# Altium footprint library Inductor_SMD.PcbLib: 587 footprints (part 7 of 37)
Each footprint in its own frame and in the unit in brackets; x right, y up, seen from the top. Pads: shape width x height; smd on the part's side, far side on the other; paste and mask are expansions set on the pad; w line width, h text height; cw(c..) or ccw(c..) is an arc to the next point about the centre after c.
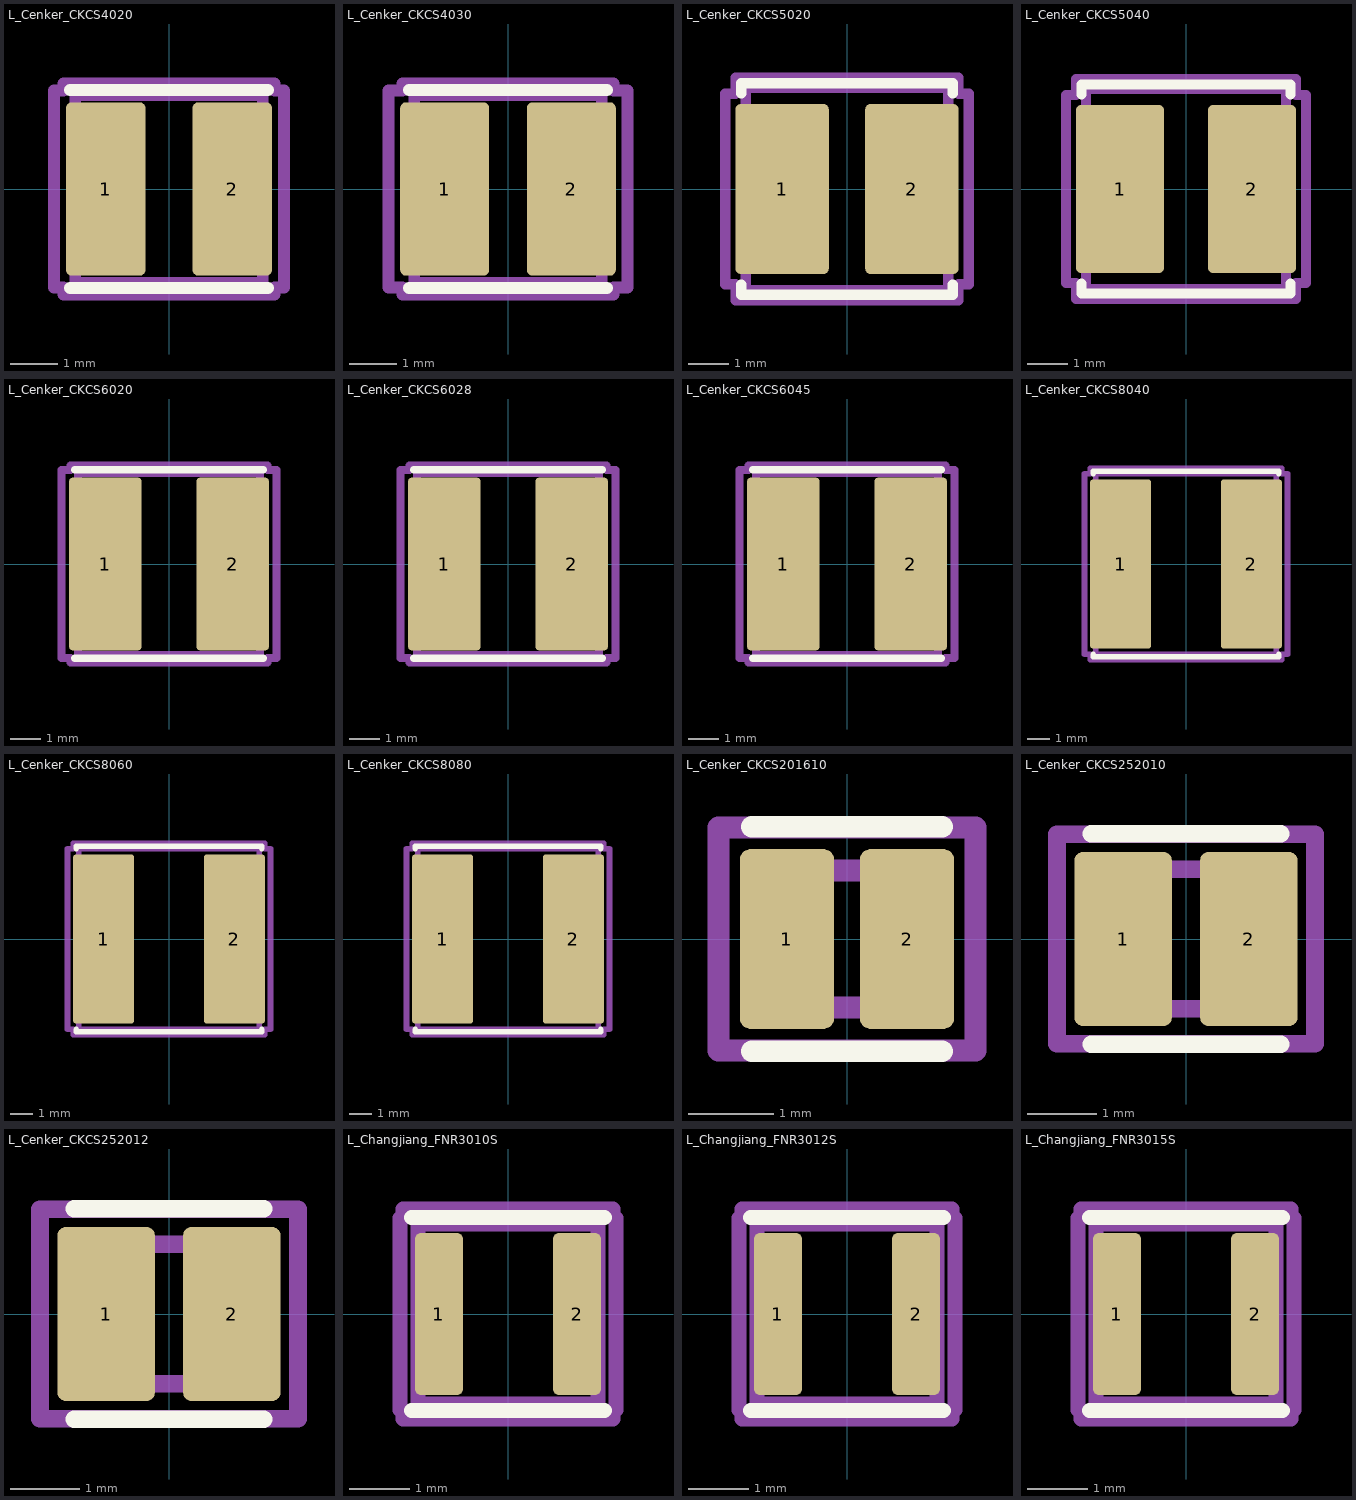
[diagram p6: the footprints below, top view; thin cyan lines are the x and y axes]

## L_Cenker_CKCS4020 [mm] "L_Cenker_CKCS4020"
pads (2):
  rrect15% 1.7x3.7 smd: 1(-1.35,0) 2(1.35,0)
F.SilkS:
  lines w0.254: -2.11,-2.11 2.11,-2.11 ; -2.11,2.11 2.11,2.11
Top Assembly:
  lines w0.254: -2,-2 -2,2 2,2 2,-2 -2,-2
  text "'.Designator'" at -4.047,-0.84 h1
Top Courtyard:
  lines w0.254: -2.45,-2.1 -2.45,2.1 -2.25,2.1 -2.25,2.25 2.25,2.25 2.25,2.1 2.45,2.1 2.45,-2.1 2.25,-2.1 2.25,-2.25 -2.25,-2.25 -2.25,-2.1 -2.45,-2.1
Top Designator:
  text ".Designator" at -7.768,-0.508 h1.52
3D body "L_Cenker_CKCS4020.step": height 2, standoff 0, extent -2.01,-2 2.01,2

## L_Cenker_CKCS4030 [mm] "L_Cenker_CKCS4030"
pads (2):
  rrect13% 1.9x3.7 smd: 1(-1.35,0) 2(1.35,0)
F.SilkS:
  lines w0.254: -2.11,-2.11 2.11,-2.11 ; -2.11,2.11 2.11,2.11
Top Assembly:
  lines w0.254: -2,-2 2,-2 2,2 -2,2 -2,-2
  text "'.Designator'" at -4.047,-0.84 h1
Top Courtyard:
  lines w0.254: -2.55,-2.1 -2.25,-2.1 -2.25,-2.25 2.25,-2.25 2.25,-2.1 2.55,-2.1 2.55,2.1 2.25,2.1 2.25,2.25 -2.25,2.25 -2.25,2.1 -2.55,2.1 -2.55,-2.1
Top Designator:
  text ".Designator" at -7.768,-0.508 h1.52
3D body "L_Cenker_CKCS4030.step": height 3, standoff 0, extent -2.01,-2 2.01,2

## L_Cenker_CKCS5020 [mm] "L_Cenker_CKCS5020"
pads (2):
  rrect11% 2.3x4.2 smd: 1(-1.6,0) 2(1.6,0)
F.SilkS:
  lines w0.254: -2.61,-2.36 -2.61,-2.61 2.61,-2.61 2.61,-2.36 ; -2.61,2.36 -2.61,2.61 2.61,2.61 2.61,2.36
Top Assembly:
  lines w0.254: -2.5,-2.5 -2.5,2.5 2.5,2.5 2.5,-2.5 -2.5,-2.5
  text "'.Designator'" at -4.047,-0.84 h1
Top Courtyard:
  lines w0.254: -3,-2.35 -3,2.35 -2.75,2.35 -2.75,2.75 2.75,2.75 2.75,2.35 3,2.35 3,-2.35 2.75,-2.35 2.75,-2.75 -2.75,-2.75 -2.75,-2.35 -3,-2.35
Top Designator:
  text ".Designator" at -7.768,-0.508 h1.52
3D body "L_Cenker_CKCS5020.step": height 2.1, standoff 0, extent -2.51,-2.5 2.51,2.5

## L_Cenker_CKCS5040 [mm] "L_Cenker_CKCS5040"
pads (2):
  rrect11% 2.2x4.2 smd: 1(-1.65,0) 2(1.65,0)
F.SilkS:
  lines w0.254: -2.61,-2.36 -2.61,-2.61 2.61,-2.61 2.61,-2.36 ; -2.61,2.36 -2.61,2.61 2.61,2.61 2.61,2.36
Top Assembly:
  lines w0.254: -2.5,-2.5 -2.5,2.5 2.5,2.5 2.5,-2.5 -2.5,-2.5
  text "'.Designator'" at -4.047,-0.84 h1
Top Courtyard:
  lines w0.254: -3,-2.35 -3,2.35 -2.75,2.35 -2.75,2.75 2.75,2.75 2.75,2.35 3,2.35 3,-2.35 2.75,-2.35 2.75,-2.75 -2.75,-2.75 -2.75,-2.35 -3,-2.35
Top Designator:
  text ".Designator" at -7.768,-0.508 h1.52
3D body "L_Cenker_CKCS5040.step": height 4, standoff 0, extent -2.51,-2.5 2.51,2.5

## L_Cenker_CKCS6020 [mm] "L_Cenker_CKCS6020"
pads (2):
  rrect10% 2.4x5.7 smd: 1(-2.1,0) 2(2.1,0)
F.SilkS:
  lines w0.254: -3.11,-3.11 3.11,-3.11 ; -3.11,3.11 3.11,3.11
Top Assembly:
  lines w0.254: -3,-3 -3,3 3,3 3,-3 -3,-3
  text "'.Designator'" at -4.047,-0.84 h1
Top Courtyard:
  lines w0.254: -3.55,-3.1 -3.55,3.1 -3.25,3.1 -3.25,3.25 3.25,3.25 3.25,3.1 3.55,3.1 3.55,-3.1 3.25,-3.1 3.25,-3.25 -3.25,-3.25 -3.25,-3.1 -3.55,-3.1
Top Designator:
  text ".Designator" at -7.768,-0.508 h1.52
3D body "L_Cenker_CKCS6020.step": height 2.1, standoff 0, extent -3.01,-3 3.01,3

## L_Cenker_CKCS6028 [mm] "L_Cenker_CKCS6028"
pads (2):
  rrect10% 2.4x5.7 smd: 1(-2.1,0) 2(2.1,0)
F.SilkS:
  lines w0.254: -3.11,-3.11 3.11,-3.11 ; -3.11,3.11 3.11,3.11
Top Assembly:
  lines w0.254: -3,-3 3,-3 3,3 -3,3 -3,-3
  text "'.Designator'" at -4.047,-0.84 h1
Top Courtyard:
  lines w0.254: -3.55,-3.1 -3.25,-3.1 -3.25,-3.25 3.25,-3.25 3.25,-3.1 3.55,-3.1 3.55,3.1 3.25,3.1 3.25,3.25 -3.25,3.25 -3.25,3.1 -3.55,3.1 -3.55,-3.1
Top Designator:
  text ".Designator" at -7.768,-0.508 h1.52
3D body "L_Cenker_CKCS6028.step": height 3, standoff 0, extent -3.01,-3 3.01,3

## L_Cenker_CKCS6045 [mm] "L_Cenker_CKCS6045"
pads (2):
  rrect10% 2.4x5.7 smd: 1(-2.1,0) 2(2.1,0)
F.SilkS:
  lines w0.254: -3.11,-3.11 3.11,-3.11 ; -3.11,3.11 3.11,3.11
Top Assembly:
  lines w0.254: -3,-3 -3,3 3,3 3,-3 -3,-3
  text "'.Designator'" at -4.047,-0.84 h1
Top Courtyard:
  lines w0.254: -3.55,-3.1 -3.55,3.1 -3.25,3.1 -3.25,3.25 3.25,3.25 3.25,3.1 3.55,3.1 3.55,-3.1 3.25,-3.1 3.25,-3.25 -3.25,-3.25 -3.25,-3.1 -3.55,-3.1
Top Designator:
  text ".Designator" at -7.768,-0.508 h1.52
3D body "L_Cenker_CKCS6045.step": height 4.7, standoff 0, extent -3.01,-3 3.01,3

## L_Cenker_CKCS8040 [mm] "L_Cenker_CKCS8040"
pads (2):
  rrect9% 2.7x7.5 smd: 1(-2.9,0) 2(2.9,0)
F.SilkS:
  lines w0.254: -4.11,-4.01 -4.11,-4.11 4.11,-4.11 4.11,-4.01 ; -4.11,4.01 -4.11,4.11 4.11,4.11 4.11,4.01
Top Assembly:
  lines w0.254: -4,-4 -4,4 4,4 4,-4 -4,-4
  text "'.Designator'" at -4.047,-0.84 h1
Top Courtyard:
  lines w0.254: -4.5,-4 -4.5,4 -4.25,4 -4.25,4.25 4.25,4.25 4.25,4 4.5,4 4.5,-4 4.25,-4 4.25,-4.25 -4.25,-4.25 -4.25,-4 -4.5,-4
Top Designator:
  text ".Designator" at -7.618,-0.508 h1.52
3D body "L_Cenker_CKCS8040.step": height 4.2, standoff 0, extent -4.01,-4 4.01,4

## L_Cenker_CKCS8060 [mm] "L_Cenker_CKCS8060"
pads (2):
  rrect9% 2.7x7.5 smd: 1(-2.9,0) 2(2.9,0)
F.SilkS:
  lines w0.254: -4.11,-4.01 -4.11,-4.11 4.11,-4.11 4.11,-4.01 ; -4.11,4.01 -4.11,4.11 4.11,4.11 4.11,4.01
Top Assembly:
  lines w0.254: -4,-4 4,-4 4,4 -4,4 -4,-4
  text "'.Designator'" at -4.047,-0.84 h1
Top Courtyard:
  lines w0.254: -4.5,-4 -4.25,-4 -4.25,-4.25 4.25,-4.25 4.25,-4 4.5,-4 4.5,4 4.25,4 4.25,4.25 -4.25,4.25 -4.25,4 -4.5,4 -4.5,-4
Top Designator:
  text ".Designator" at -7.618,-0.508 h1.52
3D body "L_Cenker_CKCS8060.step": height 6.2, standoff 0, extent -4.01,-4 4.01,4

## L_Cenker_CKCS8080 [mm] "L_Cenker_CKCS8080"
pads (2):
  rrect9% 2.7x7.5 smd: 1(-2.9,0) 2(2.9,0)
F.SilkS:
  lines w0.254: -4.11,-4.01 -4.11,-4.11 4.11,-4.11 4.11,-4.01 ; -4.11,4.01 -4.11,4.11 4.11,4.11 4.11,4.01
Top Assembly:
  lines w0.254: -4,-4 -4,4 4,4 4,-4 -4,-4
  text "'.Designator'" at -4.047,-0.84 h1
Top Courtyard:
  lines w0.254: -4.5,-4 -4.5,4 -4.25,4 -4.25,4.25 4.25,4.25 4.25,4 4.5,4 4.5,-4 4.25,-4 4.25,-4.25 -4.25,-4.25 -4.25,-4 -4.5,-4
Top Designator:
  text ".Designator" at -7.618,-0.508 h1.52
3D body "L_Cenker_CKCS8080.step": height 8, standoff 0, extent -4.01,-4 4.01,4

## L_Cenker_CKCS201610 [mm] "L_Cenker_CKCS201610"
pads (2):
  rrect23% 1.1x2.1 smd: 1(-0.7,0) 2(0.7,0)
F.SilkS:
  lines w0.254: -1.11,-1.31 1.11,-1.31 ; -1.11,1.31 1.11,1.31
Top Assembly:
  lines w0.254: -1,-0.8 -1,0.8 1,0.8 1,-0.8 -1,-0.8
  text "'.Designator'" at -2.028,-0.425 h0.5
Top Courtyard:
  lines w0.254: -1.5,-1.3 -1.5,1.3 1.5,1.3 1.5,-1.3 -1.5,-1.3
Top Designator:
  text ".Designator" at -7.698,-0.508 h1.52
3D body "L_Cenker_CKCS201610.step": height 1.05, standoff 0, extent -1.01,-0.8 1.01,0.8

## L_Cenker_CKCS252010 [mm] "L_Cenker_CKCS252010"
pads (2):
  rrect18% 1.4x2.5 smd: 1(-0.9,0) 2(0.9,0)
F.SilkS:
  lines w0.254: -1.36,-1.51 1.36,-1.51 ; -1.36,1.51 1.36,1.51
Top Assembly:
  lines w0.254: -1.25,-1 -1.25,1 1.25,1 1.25,-1 -1.25,-1
  text "'.Designator'" at -2.506,-0.518 h0.62
Top Courtyard:
  lines w0.254: -1.85,-1.5 -1.85,1.5 1.85,1.5 1.85,-1.5 -1.85,-1.5
Top Designator:
  text ".Designator" at -7.708,-0.508 h1.52
3D body "L_Cenker_CKCS252010.step": height 1.05, standoff 0, extent -1.26,-1 1.26,1

## L_Cenker_CKCS252012 [mm] "L_Cenker_CKCS252012"
pads (2):
  rrect18% 1.4x2.5 smd: 1(-0.9,0) 2(0.9,0)
F.SilkS:
  lines w0.254: -1.36,-1.51 1.36,-1.51 ; -1.36,1.51 1.36,1.51
Top Assembly:
  lines w0.254: -1.25,-1 1.25,-1 1.25,1 -1.25,1 -1.25,-1
  text "'.Designator'" at -2.506,-0.518 h0.62
Top Courtyard:
  lines w0.254: -1.85,-1.5 1.85,-1.5 1.85,1.5 -1.85,1.5 -1.85,-1.5
Top Designator:
  text ".Designator" at -7.708,-0.508 h1.52
3D body "L_Cenker_CKCS252012.step": height 1.25, standoff 0, extent -1.26,-1 1.26,1

## L_Changjiang_FNR3010S [mm] "L_Changjiang_FNR3010S"
pads (2):
  rrect25% 0.8x2.7 smd: 1(-1.15,0) 2(1.15,0)
F.SilkS:
  lines w0.254: -1.61,-1.61 1.61,-1.61 ; -1.61,1.61 1.61,1.61
Top Assembly:
  lines w0.254: -1.5,-1.5 1.5,-1.5 1.5,1.5 -1.5,1.5 -1.5,-1.5
  text "'.Designator'" at -3.033,-0.628 h0.75
Top Courtyard:
  lines w0.254: -1.8,-1.6 -1.75,-1.6 -1.75,-1.75 1.75,-1.75 1.75,-1.6 1.8,-1.6 1.8,1.6 1.75,1.6 1.75,1.75 -1.75,1.75 -1.75,1.6 -1.8,1.6 -1.8,-1.6
Top Designator:
  text ".Designator" at -7.728,-0.508 h1.52
3D body "L_Changjiang_FNR3010S.step": height 1, standoff 0, extent -1.51,-1.5 1.51,1.5

## L_Changjiang_FNR3012S [mm] "L_Changjiang_FNR3012S"
pads (2):
  rrect25% 0.8x2.7 smd: 1(-1.15,0) 2(1.15,0)
F.SilkS:
  lines w0.254: -1.61,-1.61 1.61,-1.61 ; -1.61,1.61 1.61,1.61
Top Assembly:
  lines w0.254: -1.5,-1.5 1.5,-1.5 1.5,1.5 -1.5,1.5 -1.5,-1.5
  text "'.Designator'" at -3.033,-0.628 h0.75
Top Courtyard:
  lines w0.254: -1.8,-1.6 -1.75,-1.6 -1.75,-1.75 1.75,-1.75 1.75,-1.6 1.8,-1.6 1.8,1.6 1.75,1.6 1.75,1.75 -1.75,1.75 -1.75,1.6 -1.8,1.6 -1.8,-1.6
Top Designator:
  text ".Designator" at -7.728,-0.508 h1.52
3D body "L_Changjiang_FNR3012S.step": height 1.2, standoff 0, extent -1.51,-1.5 1.51,1.5

## L_Changjiang_FNR3015S [mm] "L_Changjiang_FNR3015S"
pads (2):
  rrect25% 0.8x2.7 smd: 1(-1.15,0) 2(1.15,0)
F.SilkS:
  lines w0.254: -1.61,-1.61 1.61,-1.61 ; -1.61,1.61 1.61,1.61
Top Assembly:
  lines w0.254: -1.5,-1.5 1.5,-1.5 1.5,1.5 -1.5,1.5 -1.5,-1.5
  text "'.Designator'" at -3.033,-0.628 h0.75
Top Courtyard:
  lines w0.254: -1.8,-1.6 -1.75,-1.6 -1.75,-1.75 1.75,-1.75 1.75,-1.6 1.8,-1.6 1.8,1.6 1.75,1.6 1.75,1.75 -1.75,1.75 -1.75,1.6 -1.8,1.6 -1.8,-1.6
Top Designator:
  text ".Designator" at -7.728,-0.508 h1.52
3D body "L_Changjiang_FNR3015S.step": height 1.5, standoff 0, extent -1.51,-1.5 1.51,1.5